# EAGLE library part 7SEG_DISPLAY (library faout)
Kingbright dual 7-segment display (red)
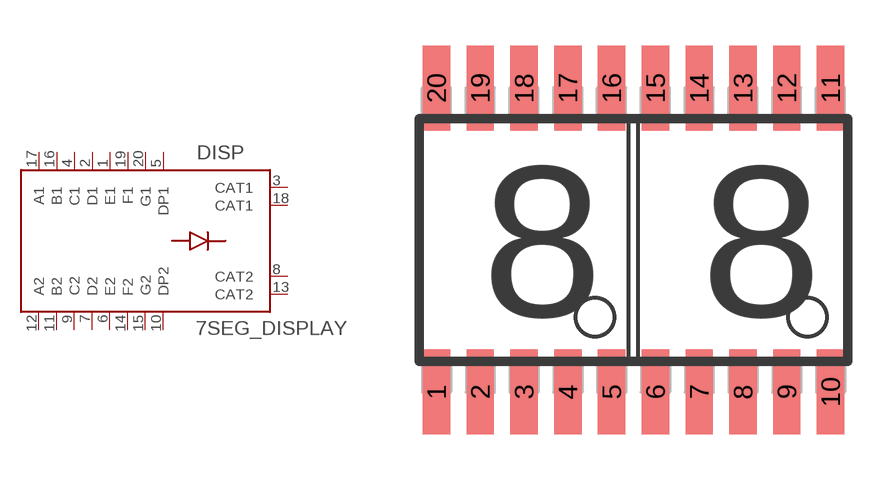
[diagram p8: symbol with the pads of 7SEG_DISPLAY; footprint 7SEG_DISPLAY]

Designator prefix DISP

## 7SEG_DISPLAY (OC_FARNELL: 2079949)  [7SEG_DISPLAY]
1  E1
2  D1
3  CAT1
4  C1
5  DP1
6  E2
7  D2
8  CAT2
9  C2
10  DP2
11  B2
12  A2
13  CAT2
14  F2
15  G2
16  B1
17  A1
18  CAT1
19  F1
20  G1

## Footprint 7SEG_DISPLAY (pad centres in mm)
smd 0.9 x 2.8: 1 -6.48,-5; 2 -5.04,-5; 3 -3.6,-5; 4 -2.16,-5; 5 -0.72,-5; 6 0.72,-5; 7 2.16,-5; 8 3.6,-5; 9 5.04,-5; 10 6.48,-5; 11 6.48,5; 12 5.04,5; 13 3.6,5; 14 2.16,5; 15 0.72,5; 16 -0.72,5; 17 -2.16,5; 18 -3.6,5; 19 -5.04,5; 20 -6.48,5